# Altium footprint library PcbLibRobotLine.PcbLib: 28 footprints (part 1 of 2)
Each footprint in its own frame and in the unit in brackets; x right, y up, seen from the top. Pads: shape width x height; smd on the part's side, far side on the other; paste and mask are expansions set on the pad; w line width, h text height; cw(c..) or ccw(c..) is an arc to the next point about the centre after c.
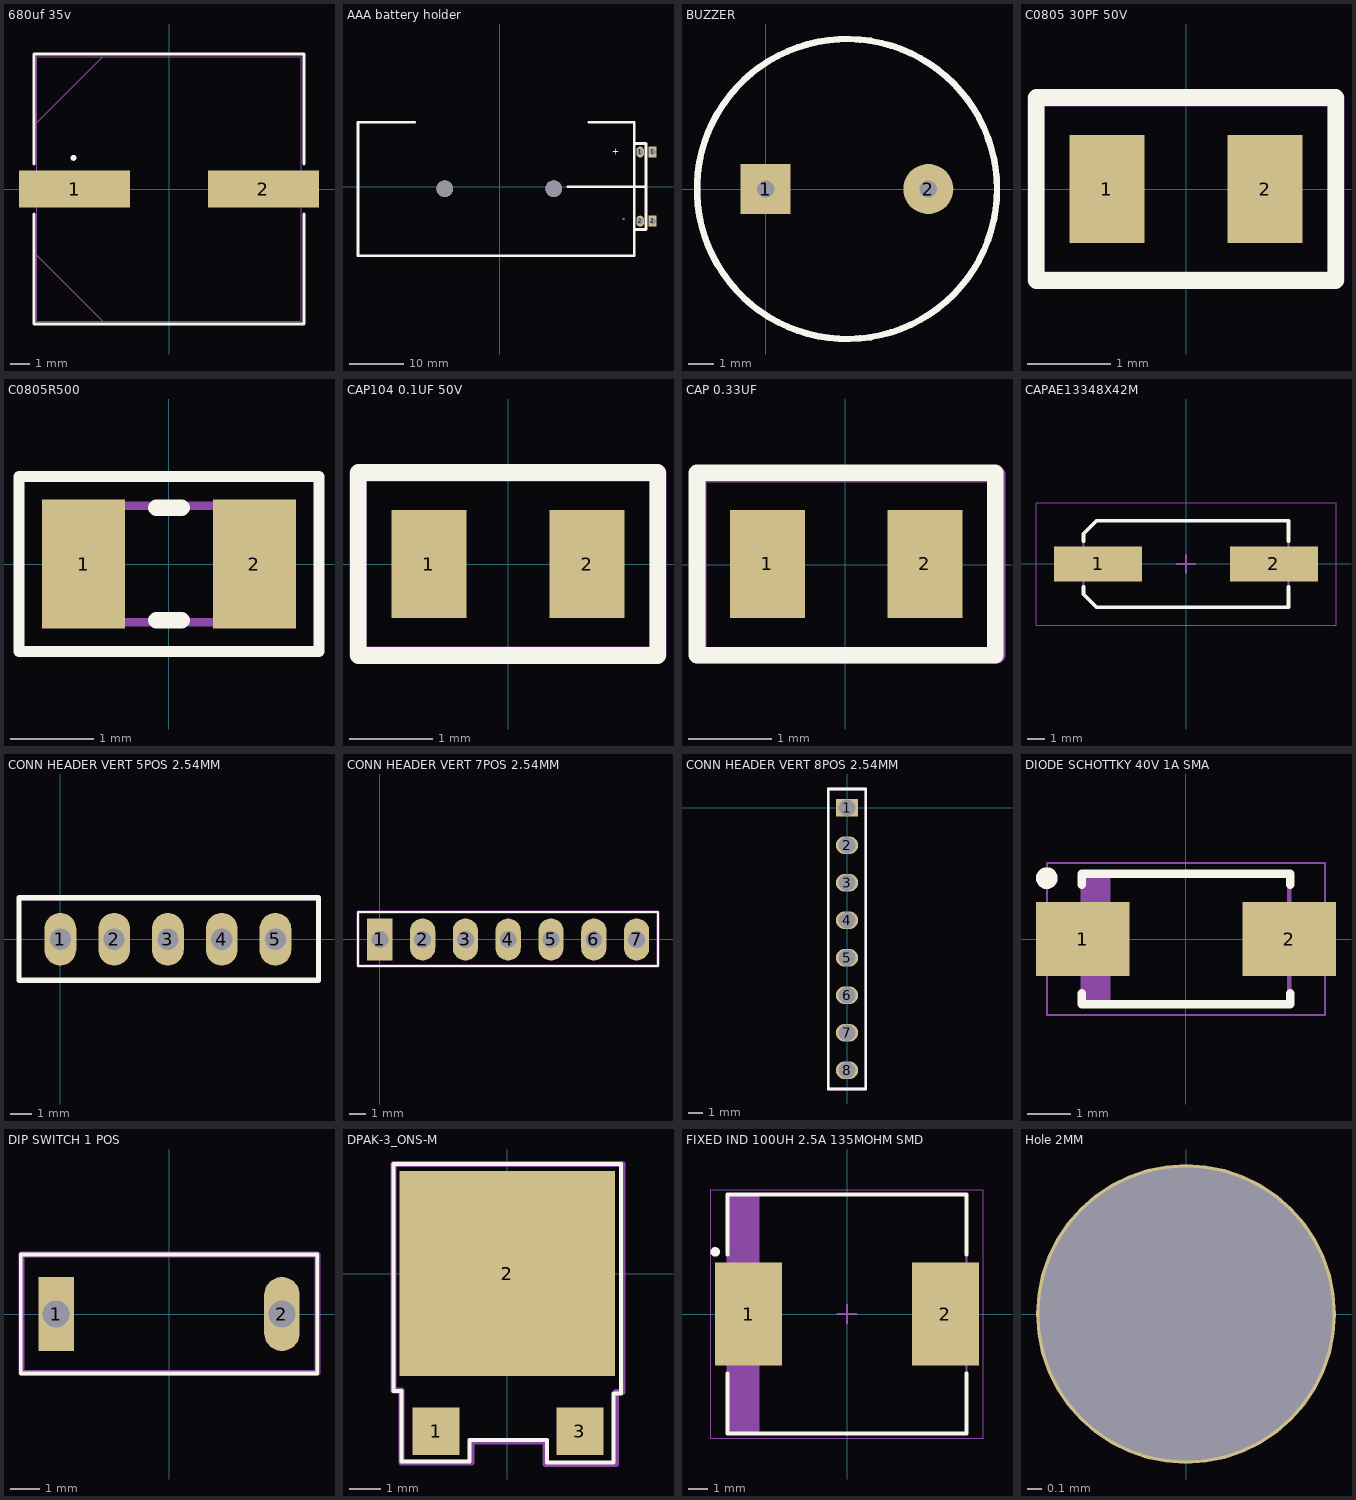
[diagram p0: the footprints below, top view; thin cyan lines are the x and y axes]

## 680uf 35v [mm]
pads (2):
  rect 5.704x1.897 smd paste+0 mask+0: 1(-4.846,0) 2(4.846,0)
Top Overlay:
  circle w0.152: c-4.902,1.6 r0.076
  lines w0.152: -6.921,-1.281 -6.921,-6.921 6.921,-6.921 6.921,-1.281 ; -6.921,1.281 -6.921,6.921 6.921,6.921 6.921,1.281
Mechanical 29 (Mech29):
  circle w0: c-6.286,0 r0.076
  lines w0.025: -6.794,-3.397 -3.397,-6.794 ; -6.794,3.397 -3.397,6.794 ; -6.794,-6.794 6.794,-6.794 6.794,6.794 -6.794,6.794 -6.794,-6.794
  text "'.Designator'" at -2.591,2.616 h0.8
3D body "CAP_UCD_12P5X13P5_NCH.step": height 14.56, standoff 0, extent -6.998,-6.667 6.998,6.921

## AAA battery holder [mm]
pads (6):
  oval 1.4x2 hole 1.2: 1(25.73,6.35) 2(25.73,-6.325)
  rect 1.5x2 hole 1.2: 1(28,6.36) 2(28,-6.33)
  round 3.05 hole 3 unplated: ""(-10.1,-0.375) ""(9.875,-0.375)
Top Overlay:
  lines w0.5: -15.621,11.82 -26.01,11.82 -26.01,-12.69 24.65,-12.69 24.65,11.82 16.281,11.82 ; 12.475,-0.03 26.8,-0.03 ; 24.65,-7.875 25.69,-7.875 26.8,-7.875 26.8,7.9 25.69,7.9 24.65,7.9
  text "+" at 20.65,5.403 h2
  text "-" at 22.436,-6.869 h2
3D body "User Library-koszyk 2xAAA_214.STEP": height 13.38, standoff 0.38, extent -26.008,-12.689 26.795,11.811

## BUZZER [mm]
pads (2):
  rect 2x2 hole 0.7: 1(0,0)
  round 2 hole 0.7: 2(6.502,0)
Top Overlay:
  circle w0.254: c3.251,0 r6
Mechanical 29 (Mech29):
  circle w0.254: c3.251,0 r6
  text "'.Designator'" at -0.432,2.692 h0.7
3D body "AT-1224-TWT-5V-2-R.stp": height 10.05, standoff -2.8, extent -2.748,-5.974 12.002,6.024

## C0805 30PF 50V [mm]
pads (2):
  rect 0.9x1.3 smd: 1(-0.95,0) 2(0.95,0)
Top Overlay:
  lines w0.2: -1.8,-1.1 1.8,-1.1 1.8,1.1 -1.8,1.1 -1.8,-1.1
Mechanical 29 (Mech29):
  lines w0.2: -1.803,-1.092 -1.803,1.092 1.803,1.092 1.803,-1.092 -1.803,-1.092
  text "'.Designator'" at -0.305,-0.432 h0.7
3D body "C0805X300J5GAC7800.step": height 1, standoff 0.02, extent -1.15,-0.775 1.15,0.775

## C0805R500 [mm] "RES SMD 500 OHM 0.05% 1/4W 0805"
height 1.09
pads (2):
  rect 1x1.55 smd: 1(-1.025,0) 2(1.025,0)
Top Overlay:
  lines w0.127: -1.8,-1.05 -1.8,1.05 1.8,1.05 1.8,-1.05 -1.8,-1.05
  lines w0.2: -0.15,-0.675 0.15,-0.675 ; -0.15,0.675 0.15,0.675
Mechanical 13:
  lines w0.1: -1.1,-0.7 -1.1,0.7 1.1,0.7 1.1,-0.7 -1.1,-0.7
Mechanical 29 (Mech29):
  lines w0.05: -1.8,-1.05 -1.8,1.05 1.8,1.05 1.8,-1.05 -1.8,-1.05
  text "'.Designator'" at -0.432,-0.356 h0.7
3D body "0805_VIS.step": height 0.84, standoff 0, extent -1.1,-0.7 1.1,0.7

## CAP104 0.1UF 50V [mm] "0.1µF ±10% 50V Ceramic Capacitor X7R 0805 (2012 Metric)"
pads (2):
  rect 0.9x1.3 smd: 1(-0.95,0) 2(0.95,0)
Top Overlay:
  lines w0.2: -1.8,-1.1 1.8,-1.1 1.8,1.1 -1.8,1.1 -1.8,-1.1
Mechanical 29 (Mech29):
  lines w0.2: -1.803,-1.092 -1.803,1.092 1.803,1.092 1.803,-1.092 -1.803,-1.092
  text "'.Designator'" at -0.965,-0.813 h0.7
3D body "C0805C104K5RACTU.step": height 0.88, standoff 0, extent -1.1,-0.725 1.1,0.725

## CAP 0.33UF [mm] "CAP CER 0.33UF 16V Y5V 0805"
pads (2):
  rect 0.9x1.3 smd: 1(-0.94,0.01) 2(0.96,0.01)
Top Overlay:
  lines w0.2: -1.79,-1.09 -1.79,1.11 1.81,1.11 1.81,-1.09 -1.79,-1.09
Mechanical 29 (Mech29):
  lines w0.2: -1.778,-1.092 -1.778,1.092 1.829,1.092 1.829,-1.092 -1.778,-1.092
  text "'.Designator'" at -0.762,-0.61 h0.7
3D body "C0805X300J5GAC7800.step": height 1, standoff 0.02, extent -1.14,-0.765 1.16,0.785

## CAPAE13348X42M [mm] "Aluminum Electrolytic Capacitor, Body 11.55x4.85x4.20mm, IPC Low Density"
height 4.2
pads (2):
  rect 4.95x1.95 smd: 1(-4.95,0) 2(4.95,0)
Top Overlay:
  lines w0.2: -5.775,-1.275 -5.775,-1.7 -5.05,-2.425 5.775,-2.425 5.775,-1.275 ; -5.775,1.275 -5.775,1.7 -5.05,2.425 5.775,2.425 5.775,1.275
Mechanical 15:
  lines w0.1: -0.5,0 0.5,0 ; 0,-0.5 0,0.5
Mechanical 29 (Mech29):
  lines w0.05: -8.45,-3.45 -8.45,3.45 8.45,3.45 8.45,-3.45 -8.45,-3.45
  lines w0.1: -5.775,-1.7 -5.775,1.7 -5.05,2.425 5.775,2.425 5.775,-2.425 -5.05,-2.425 -5.775,-1.7
  text "'.Designator'" at -2.108,-0.584 h0.7
3D body "ABLS.STEP": height 4.26, standoff 0.1, extent -6.35,-2.35 6.35,2.349

## CONN HEADER VERT 5POS 2.54MM [mm]
pads (5):
  oval 1.5x2.5 hole 1: 1(0,0) 2(2.54,0) 3(5.08,0) 4(7.62,0) 5(10.16,0)
Top Overlay:
  lines w0.254: -1.956,-1.93 12.192,-1.93 12.192,1.956 -1.956,1.956 -1.956,-1.93
Mechanical 29 (Mech29):
  lines w0.2: -1.956,-1.93 -1.956,1.93 12.217,1.93 12.217,-1.93 -1.956,-1.93
  text "'.Designator'" at 2.311,-0.406 h0.7
3D body "61300511121_rev1.stp": height 8.52, standoff -3.02, extent -1.27,-1.27 11.43,1.27

## CONN HEADER VERT 7POS 2.54MM [mm]
pads (7):
  rect 1.5x2.5 hole 1: 1(0,0)
  oval 1.5x2.5 hole 1: 2(2.54,0) 3(5.08,0) 4(7.62,0) 5(10.16,0) 6(12.7,0) 7(15.24,0)
Top Overlay:
  lines w0.127: -1.295,-1.575 16.51,-1.575 16.51,-0.102 16.51,0.533 16.51,1.626 -1.295,1.626 -1.295,-0.508 -1.295,-1.575
Mechanical 29 (Mech29):
  lines w0.2: -1.295,-1.575 -1.295,1.626 16.51,1.626 16.51,-1.575 -1.295,-1.575
  text "'.Designator'" at 4.801,-0.406 h0.7
3D body "022284074.stp": height 10.47, standoff -2.99, extent -1.27,-1.245 16.51,1.245

## CONN HEADER VERT 8POS 2.54MM [mm]
pads (8):
  rect 1.5x1.2 hole 1.15: 1(0,0)
  oval 1.5x1.2 hole 1.15: 2(0,-2.54) 3(0,-5.08) 4(0,-7.62) 5(0,-10.16) 6(0,-12.7) 7(0,-15.24) 8(0,-17.78)
Top Overlay:
  lines w0.2: -1.27,-19.05 -1.27,1.27 1.27,1.27 1.27,-19.05 -1.27,-19.05
Mechanical 29 (Mech29):
  lines w0.2: -1.27,-19.05 -1.27,1.27 1.27,1.27 1.27,-19.05 -1.27,-19.05
  text "'.Designator'" at 0.432,-8.966 h0.7
3D body "CONN_HEADER_VERT_8POS_254MM.stp": height 9.27, standoff -2.27, extent -1.27,-19.05 1.27,1.27

## DIODE SCHOTTKY 40V 1A SMA [mm] "Diode Schottky 1A Surface Mount SMA (DO-214AC)"
height 1.9
pads (2):
  rect 2.15x1.7 smd: 1(-2.375,0) 2(2.375,0)
Top Overlay:
  circle w0.25: c-3.2,1.4 r0.125
  lines w0.2: -2.4,-1.25 -2.4,-1.5 2.4,-1.5 2.4,-1.25 ; -2.4,1.25 -2.4,1.5 2.4,1.5 2.4,1.25
Mechanical 29 (Mech29):
  rectangle: -2.375,-1.475 -1.736,1.475
  lines w0.05: -3.2,-1.75 -3.2,1.75 3.2,1.75 3.2,-1.75 -3.2,-1.75
  lines w0.1: -2.375,-1.475 2.375,-1.475 2.375,1.475 -2.375,1.475 -2.375,-1.475
  text "'.Designator'" at -1.397,-0.533 h0.7
3D body "DIODE SCHOTTKY 40V 1A SMA.step": height 1.9, standoff 0, extent -2.595,-1.475 2.595,1.475

## DIP SWITCH 1 POS [mm]
pads (2):
  rect 1.2x2.5 hole 0.9: 1(-3.81,0)
  oval 1.2x2.5 hole 0.9: 2(3.81,0)
Top Overlay:
  lines w0.127: -5.004,-2.007 -5.004,0 -5.004,2.007 3.353,2.007 5.004,2.007 5.004,0 5.004,-2.007 -3.353,-2.007 -5.004,-2.007
Mechanical 29 (Mech29):
  lines w0.2: -4.978,-1.981 -4.978,2.007 5.004,2.007 5.004,-1.981 -4.978,-1.981
  text "'.Designator'" at -0.711,-0.356 h0.7
3D body "DIP_1.step": height 6.86, standoff -3.62, extent -5.004,-2.007 4.996,1.993

## DPAK-3_ONS-M [mm]
pads (3):
  rect 1.5x1.5 smd paste+0 mask+0: 1(-2.261,-5.004) 3(2.311,-5.004)
  rect 6.833x6.5 smd paste+0 mask+0: 2(0,0)
Top Overlay:
  lines w0.127: -3.607,-3.734 -3.607,3.48 3.607,3.48 3.607,-3.81 3.378,-3.81 3.378,-5.994 1.27,-5.994 1.27,-5.283 -1.194,-5.283 -1.194,-5.969 -3.353,-5.969 -3.353,-3.734 -3.607,-3.734
Mechanical 29 (Mech29):
  lines w0.2: -3.607,-3.708 -3.607,3.48 3.658,3.48 3.658,-3.759 3.454,-3.759 3.454,-6.045 1.219,-6.045 1.219,-5.359 1.194,-5.334 -1.143,-5.334 -1.143,-5.994 -3.353,-5.994 -3.353,-3.708 -3.607,-3.708
  text "'.Designator'" at -0.965,-0.457 h0.7
3D body: height 0.25, standoff 0, extent 0.025,0.381 0.279,0.635
3D body "DPAK-3_ONS.step": height 1.7, standoff -0.05, extent -3.341,-5.024 3.391,3.043

## FIXED IND 100UH 2.5A 135MOHM SMD [mm] "SRR1210A-101M"
height 10
pads (2):
  rect 3.5x5.4 smd: 1(-5.15,0) 2(5.15,0)
Top Overlay:
  circle w0.25: c-6.9,3.25 r0.125
  lines w0.2: -6.25,-3.1 -6.25,-6.25 6.25,-6.25 6.25,-3.1 ; -6.25,3.1 -6.25,6.25 6.25,6.25 6.25,3.1
Mechanical 15:
  lines w0.05: -7.125,-6.5 -7.125,6.5 7.125,6.5 7.125,-6.5 -7.125,-6.5
  lines w0.1: -0.5,0 0.5,0 ; 0,-0.5 0,0.5
Mechanical 29 (Mech29):
  rectangle: -6.25,-6.25 -4.569,6.25
  lines w0.1: -6.25,-6.25 -6.25,6.25 6.25,6.25 6.25,-6.25 -6.25,-6.25
  text "'.Designator'" at -2.057,0.102 h0.7
3D body "SRR1210A.STP": height 9.5, standoff 0.25, extent -6.251,-6 6.149,6

## Hole 2MM [mm]
pads (1):
  round 2.05 hole 2: ""(0,0)